# Altium footprint library Capacitor_THT.PcbLib: 378 footprints (part 8 of 24)
Each footprint in its own frame and in the unit in brackets; x right, y up, seen from the top. Pads: shape width x height; smd on the part's side, far side on the other; paste and mask are expansions set on the pad; w line width, h text height; cw(c..) or ccw(c..) is an arc to the next point about the centre after c.
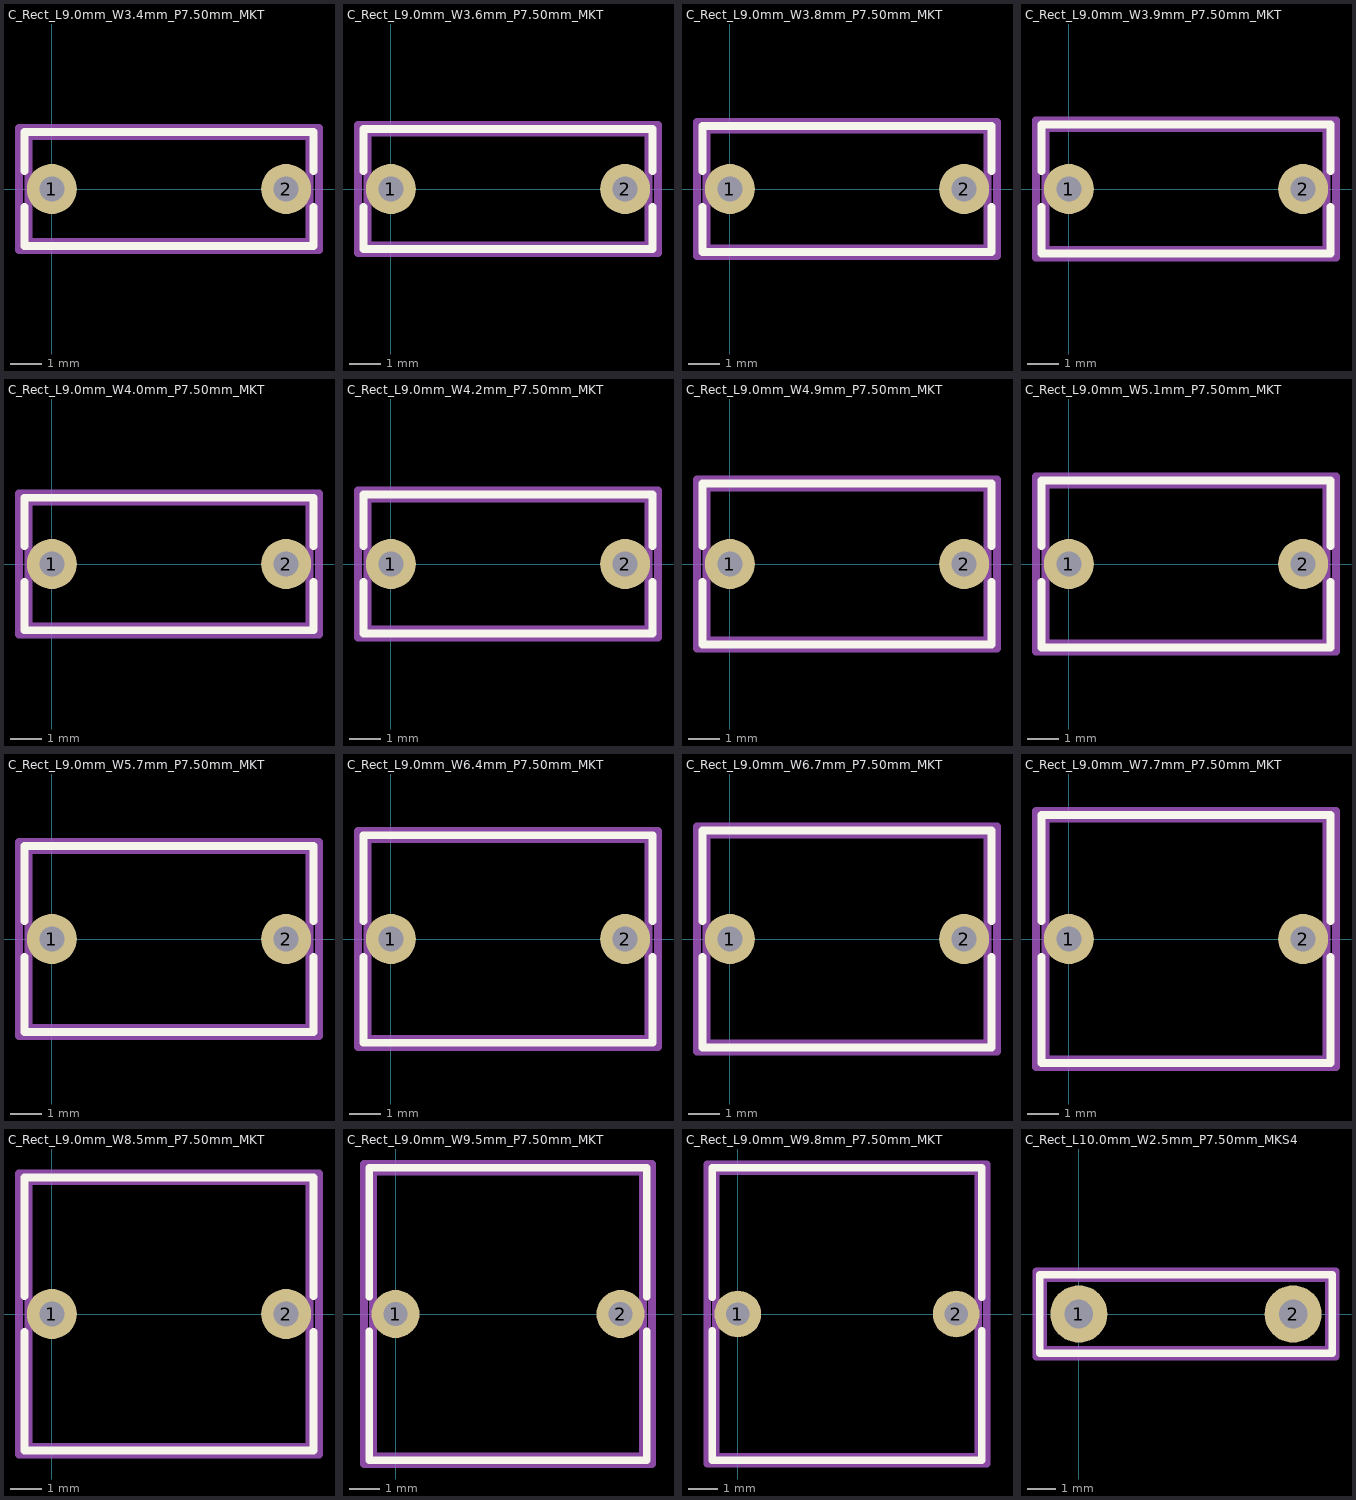
[diagram p7: the footprints below, top view; thin cyan lines are the x and y axes]

## C_Rect_L9.0mm_W3.4mm_P7.50mm_MKT [mm] "C_Rect_L9.0mm_W3.4mm_P7.50mm_MKT"
pads (2):
  round 1.6 hole 0.8: 1(0,0) 2(7.5,0)
F.SilkS:
  lines w0.254: -0.87,-0.57 -0.87,-1.82 8.37,-1.82 8.37,-0.57 ; -0.87,0.57 -0.87,1.82 8.37,1.82 8.37,0.57
Top Component Center:
  lines w0.127: -0.127,0 0.127,0 ; 0,-0.127 0,0.127
Top Assembly:
  lines w0.254: -0.75,-1.7 8.25,-1.7 8.25,1.7 -0.75,1.7 -0.75,-1.7
Top Courtyard:
  lines w0.254: -1.05,-1.95 8.55,-1.95 8.55,1.95 -1.05,1.95 -1.05,-1.95
Top Designator:
  text ".Designator" at 0.376,-0.472 h1.52
3D body "C_Rect_L9.0mm_W3.4mm_P7.50mm_MKT.step": height 8, standoff -1.9, extent -0.25,-1.7 7.75,1.7

## C_Rect_L9.0mm_W3.6mm_P7.50mm_MKT [mm] "C_Rect_L9.0mm_W3.6mm_P7.50mm_MKT"
pads (2):
  round 1.6 hole 0.8: 1(0,0) 2(7.5,0)
F.SilkS:
  lines w0.254: -0.87,-0.57 -0.87,-1.92 8.37,-1.92 8.37,-0.57 ; -0.87,0.57 -0.87,1.92 8.37,1.92 8.37,0.57
Top Component Center:
  lines w0.127: -0.127,0 0.127,0 ; 0,-0.127 0,0.127
Top Assembly:
  lines w0.254: -0.75,-1.8 -0.75,1.8 8.25,1.8 8.25,-1.8 -0.75,-1.8
Top Courtyard:
  lines w0.254: -1.05,-2.05 8.55,-2.05 8.55,2.05 -1.05,2.05 -1.05,-2.05
Top Designator:
  text ".Designator" at 0.376,-0.472 h1.52
3D body "C_Rect_L9.0mm_W3.6mm_P7.50mm_MKT.step": height 8, standoff -1.9, extent -0.25,-1.8 7.75,1.8

## C_Rect_L9.0mm_W3.8mm_P7.50mm_MKT [mm] "C_Rect_L9.0mm_W3.8mm_P7.50mm_MKT"
pads (2):
  round 1.6 hole 0.8: 1(0,0) 2(7.5,0)
F.SilkS:
  lines w0.254: -0.87,-0.57 -0.87,-2.02 8.37,-2.02 8.37,-0.57 ; -0.87,0.57 -0.87,2.02 8.37,2.02 8.37,0.57
Top Component Center:
  lines w0.127: -0.127,0 0.127,0 ; 0,-0.127 0,0.127
Top Assembly:
  lines w0.254: -0.75,-1.9 8.25,-1.9 8.25,1.9 -0.75,1.9 -0.75,-1.9
Top Courtyard:
  lines w0.254: -1.05,-2.15 8.55,-2.15 8.55,2.15 -1.05,2.15 -1.05,-2.15
Top Designator:
  text ".Designator" at 0.376,-0.472 h1.52
3D body "C_Rect_L9.0mm_W3.8mm_P7.50mm_MKT.step": height 8, standoff -1.9, extent -0.25,-1.9 7.75,1.9

## C_Rect_L9.0mm_W3.9mm_P7.50mm_MKT [mm] "C_Rect_L9.0mm_W3.9mm_P7.50mm_MKT"
pads (2):
  round 1.6 hole 0.8: 1(0,0) 2(7.5,0)
F.SilkS:
  lines w0.254: -0.87,-0.57 -0.87,-2.07 8.37,-2.07 8.37,-0.57 ; -0.87,0.57 -0.87,2.07 8.37,2.07 8.37,0.57
Top Component Center:
  lines w0.127: -0.127,0 0.127,0 ; 0,-0.127 0,0.127
Top Assembly:
  lines w0.254: -0.75,-1.95 8.25,-1.95 8.25,1.95 -0.75,1.95 -0.75,-1.95
Top Courtyard:
  lines w0.254: -1.05,-2.2 8.55,-2.2 8.55,2.2 -1.05,2.2 -1.05,-2.2
Top Designator:
  text ".Designator" at 0.376,-0.472 h1.52
3D body "C_Rect_L9.0mm_W3.9mm_P7.50mm_MKT.step": height 8, standoff -1.9, extent -0.25,-1.95 7.75,1.95

## C_Rect_L9.0mm_W4.0mm_P7.50mm_MKT [mm] "C_Rect_L9.0mm_W4.0mm_P7.50mm_MKT"
pads (2):
  round 1.6 hole 0.8: 1(0,0) 2(7.5,0)
F.SilkS:
  lines w0.254: -0.87,-0.57 -0.87,-2.12 8.37,-2.12 8.37,-0.57 ; -0.87,0.57 -0.87,2.12 8.37,2.12 8.37,0.57
Top Component Center:
  lines w0.127: -0.127,0 0.127,0 ; 0,-0.127 0,0.127
Top Assembly:
  lines w0.254: -0.75,-2 8.25,-2 8.25,2 -0.75,2 -0.75,-2
Top Courtyard:
  lines w0.254: -1.05,-2.25 8.55,-2.25 8.55,2.25 -1.05,2.25 -1.05,-2.25
Top Designator:
  text ".Designator" at 0.376,-0.472 h1.52
3D body "C_Rect_L9.0mm_W4.0mm_P7.50mm_MKT.step": height 8, standoff -1.9, extent -0.25,-2 7.75,2

## C_Rect_L9.0mm_W4.2mm_P7.50mm_MKT [mm] "C_Rect_L9.0mm_W4.2mm_P7.50mm_MKT"
pads (2):
  round 1.6 hole 0.8: 1(0,0) 2(7.5,0)
F.SilkS:
  lines w0.254: -0.87,-0.57 -0.87,-2.22 8.37,-2.22 8.37,-0.57 ; -0.87,0.57 -0.87,2.22 8.37,2.22 8.37,0.57
Top Component Center:
  lines w0.127: -0.127,0 0.127,0 ; 0,-0.127 0,0.127
Top Assembly:
  lines w0.254: -0.75,-2.1 8.25,-2.1 8.25,2.1 -0.75,2.1 -0.75,-2.1
Top Courtyard:
  lines w0.254: -1.05,-2.35 8.55,-2.35 8.55,2.35 -1.05,2.35 -1.05,-2.35
Top Designator:
  text ".Designator" at 0.376,-0.472 h1.52
3D body "C_Rect_L9.0mm_W4.2mm_P7.50mm_MKT.step": height 8, standoff -1.9, extent -0.25,-2.1 7.75,2.1

## C_Rect_L9.0mm_W4.9mm_P7.50mm_MKT [mm] "C_Rect_L9.0mm_W4.9mm_P7.50mm_MKT"
pads (2):
  round 1.6 hole 0.8: 1(0,0) 2(7.5,0)
F.SilkS:
  lines w0.254: -0.87,-0.57 -0.87,-2.57 8.37,-2.57 8.37,-0.57 ; -0.87,0.57 -0.87,2.57 8.37,2.57 8.37,0.57
Top Component Center:
  lines w0.127: -0.127,0 0.127,0 ; 0,-0.127 0,0.127
Top Assembly:
  lines w0.254: -0.75,-2.45 8.25,-2.45 8.25,2.45 -0.75,2.45 -0.75,-2.45
Top Courtyard:
  lines w0.254: -1.05,-2.7 8.55,-2.7 8.55,2.7 -1.05,2.7 -1.05,-2.7
Top Designator:
  text ".Designator" at 0.376,-0.472 h1.52
3D body "C_Rect_L9.0mm_W4.9mm_P7.50mm_MKT.step": height 8, standoff -1.9, extent -0.25,-2.45 7.75,2.45

## C_Rect_L9.0mm_W5.1mm_P7.50mm_MKT [mm] "C_Rect_L9.0mm_W5.1mm_P7.50mm_MKT"
pads (2):
  round 1.6 hole 0.8: 1(0,0) 2(7.5,0)
F.SilkS:
  lines w0.254: -0.87,-0.57 -0.87,-2.67 8.37,-2.67 8.37,-0.57 ; -0.87,0.57 -0.87,2.67 8.37,2.67 8.37,0.57
Top Component Center:
  lines w0.127: -0.127,0 0.127,0 ; 0,-0.127 0,0.127
Top Assembly:
  lines w0.254: -0.75,-2.55 8.25,-2.55 8.25,2.55 -0.75,2.55 -0.75,-2.55
Top Courtyard:
  lines w0.254: -1.05,-2.8 8.55,-2.8 8.55,2.8 -1.05,2.8 -1.05,-2.8
Top Designator:
  text ".Designator" at 0.376,-0.472 h1.52
3D body "C_Rect_L9.0mm_W5.1mm_P7.50mm_MKT.step": height 8, standoff -1.9, extent -0.25,-2.55 7.75,2.55

## C_Rect_L9.0mm_W5.7mm_P7.50mm_MKT [mm] "C_Rect_L9.0mm_W5.7mm_P7.50mm_MKT"
pads (2):
  round 1.6 hole 0.8: 1(0,0) 2(7.5,0)
F.SilkS:
  lines w0.254: -0.87,-0.57 -0.87,-2.97 8.37,-2.97 8.37,-0.57 ; -0.87,0.57 -0.87,2.97 8.37,2.97 8.37,0.57
Top Component Center:
  lines w0.127: -0.127,0 0.127,0 ; 0,-0.127 0,0.127
Top Assembly:
  lines w0.254: -0.75,-2.85 8.25,-2.85 8.25,2.85 -0.75,2.85 -0.75,-2.85
Top Courtyard:
  lines w0.254: -1.05,-3.1 8.55,-3.1 8.55,3.1 -1.05,3.1 -1.05,-3.1
Top Designator:
  text ".Designator" at 0.376,-0.472 h1.52
3D body "C_Rect_L9.0mm_W5.7mm_P7.50mm_MKT.step": height 8, standoff -1.9, extent -0.25,-2.85 7.75,2.85

## C_Rect_L9.0mm_W6.4mm_P7.50mm_MKT [mm] "C_Rect_L9.0mm_W6.4mm_P7.50mm_MKT"
pads (2):
  round 1.6 hole 0.8: 1(0,0) 2(7.5,0)
F.SilkS:
  lines w0.254: -0.87,-0.57 -0.87,-3.32 8.37,-3.32 8.37,-0.57 ; -0.87,0.57 -0.87,3.32 8.37,3.32 8.37,0.57
Top Component Center:
  lines w0.127: -0.127,0 0.127,0 ; 0,-0.127 0,0.127
Top Assembly:
  lines w0.254: -0.75,-3.2 -0.75,3.2 8.25,3.2 8.25,-3.2 -0.75,-3.2
Top Courtyard:
  lines w0.254: -1.05,-3.45 -1.05,3.45 8.55,3.45 8.55,-3.45 -1.05,-3.45
Top Designator:
  text ".Designator" at 0.316,-0.345 h1.52
3D body "C_Rect_L9.0mm_W6.4mm_P7.50mm_MKT.step": height 8, standoff -1.9, extent -0.25,-3.2 7.75,3.2

## C_Rect_L9.0mm_W6.7mm_P7.50mm_MKT [mm] "C_Rect_L9.0mm_W6.7mm_P7.50mm_MKT"
pads (2):
  round 1.6 hole 0.8: 1(0,0) 2(7.5,0)
F.SilkS:
  lines w0.254: -0.87,-0.57 -0.87,-3.47 8.37,-3.47 8.37,-0.57 ; -0.87,0.57 -0.87,3.47 8.37,3.47 8.37,0.57
Top Component Center:
  lines w0.127: -0.127,0 0.127,0 ; 0,-0.127 0,0.127
Top Assembly:
  lines w0.254: -0.75,-3.35 8.25,-3.35 8.25,3.35 -0.75,3.35 -0.75,-3.35
Top Courtyard:
  lines w0.254: -1.05,-3.6 8.55,-3.6 8.55,3.6 -1.05,3.6 -1.05,-3.6
Top Designator:
  text ".Designator" at 0.316,-0.345 h1.52
3D body "C_Rect_L9.0mm_W6.7mm_P7.50mm_MKT.step": height 8, standoff -1.9, extent -0.25,-3.35 7.75,3.35

## C_Rect_L9.0mm_W7.7mm_P7.50mm_MKT [mm] "C_Rect_L9.0mm_W7.7mm_P7.50mm_MKT"
pads (2):
  round 1.6 hole 0.8: 1(0,0) 2(7.5,0)
F.SilkS:
  lines w0.254: -0.87,-0.57 -0.87,-3.97 8.37,-3.97 8.37,-0.57 ; -0.87,0.57 -0.87,3.97 8.37,3.97 8.37,0.57
Top Component Center:
  lines w0.127: -0.127,0 0.127,0 ; 0,-0.127 0,0.127
Top Assembly:
  lines w0.254: -0.75,-3.85 -0.75,3.85 8.25,3.85 8.25,-3.85 -0.75,-3.85
Top Courtyard:
  lines w0.254: -1.05,-4.1 -1.05,4.1 8.55,4.1 8.55,-4.1 -1.05,-4.1
Top Designator:
  text ".Designator" at 0.316,-0.345 h1.52
3D body "C_Rect_L9.0mm_W7.7mm_P7.50mm_MKT.step": height 8, standoff -1.9, extent -0.25,-3.85 7.75,3.85

## C_Rect_L9.0mm_W8.5mm_P7.50mm_MKT [mm] "C_Rect_L9.0mm_W8.5mm_P7.50mm_MKT"
pads (2):
  round 1.6 hole 0.8: 1(0,0) 2(7.5,0)
F.SilkS:
  lines w0.254: -0.87,-0.57 -0.87,-4.37 8.37,-4.37 8.37,-0.57 ; -0.87,0.57 -0.87,4.37 8.37,4.37 8.37,0.57
Top Component Center:
  lines w0.127: -0.127,0 0.127,0 ; 0,-0.127 0,0.127
Top Assembly:
  lines w0.254: -0.75,-4.25 8.25,-4.25 8.25,4.25 -0.75,4.25 -0.75,-4.25
Top Courtyard:
  lines w0.254: -1.05,-4.5 8.55,-4.5 8.55,4.5 -1.05,4.5 -1.05,-4.5
Top Designator:
  text ".Designator" at 0.316,-0.345 h1.52
3D body "C_Rect_L9.0mm_W8.5mm_P7.50mm_MKT.step": height 8, standoff -1.9, extent -0.25,-4.25 7.75,4.25

## C_Rect_L9.0mm_W9.5mm_P7.50mm_MKT [mm] "C_Rect_L9.0mm_W9.5mm_P7.50mm_MKT"
pads (2):
  round 1.6 hole 0.8: 1(0,0) 2(7.5,0)
F.SilkS:
  lines w0.254: -0.87,-0.57 -0.87,-4.87 8.37,-4.87 8.37,-0.57 ; -0.87,0.57 -0.87,4.87 8.37,4.87 8.37,0.57
Top Component Center:
  lines w0.127: -0.127,0 0.127,0 ; 0,-0.127 0,0.127
Top Assembly:
  lines w0.254: -0.75,-4.75 8.25,-4.75 8.25,4.75 -0.75,4.75 -0.75,-4.75
Top Courtyard:
  lines w0.254: -1.05,-5 8.55,-5 8.55,5 -1.05,5 -1.05,-5
Top Designator:
  text ".Designator" at 0.316,-0.345 h1.52
3D body "C_Rect_L9.0mm_W9.5mm_P7.50mm_MKT.step": height 8, standoff -1.9, extent -0.25,-4.75 7.75,4.75

## C_Rect_L9.0mm_W9.8mm_P7.50mm_MKT [mm] "C_Rect_L9.0mm_W9.8mm_P7.50mm_MKT"
pads (2):
  round 1.6 hole 0.8: 1(0,0) 2(7.5,0)
F.SilkS:
  lines w0.254: -0.87,-0.57 -0.87,-5.02 8.37,-5.02 8.37,-0.57 ; -0.87,0.57 -0.87,5.02 8.37,5.02 8.37,0.57
Top Component Center:
  lines w0.127: -0.127,0 0.127,0 ; 0,-0.127 0,0.127
Top Assembly:
  lines w0.254: -0.75,-4.9 8.25,-4.9 8.25,4.9 -0.75,4.9 -0.75,-4.9
Top Courtyard:
  lines w0.254: -1.05,-5.15 8.55,-5.15 8.55,5.15 -1.05,5.15 -1.05,-5.15
Top Designator:
  text ".Designator" at 0.316,-0.345 h1.52
3D body "C_Rect_L9.0mm_W9.8mm_P7.50mm_MKT.step": height 8, standoff -1.9, extent -0.25,-4.9 7.75,4.9

## C_Rect_L10.0mm_W2.5mm_P7.50mm_MKS4 [mm] "C_Rect_L10.0mm_W2.5mm_P7.50mm_MKS4"
pads (2):
  round 2 hole 1: 1(0,0) 2(7.5,0)
F.SilkS:
  lines w0.254: -1.37,-1.37 8.87,-1.37 8.87,1.37 -1.37,1.37 -1.37,-1.37
Top Component Center:
  lines w0.127: -0.127,0 0.127,0 ; 0,-0.127 0,0.127
Top Assembly:
  lines w0.254: -1.25,-1.25 8.75,-1.25 8.75,1.25 -1.25,1.25 -1.25,-1.25
Top Courtyard:
  lines w0.254: -1.5,-1.5 9,-1.5 9,1.5 -1.5,1.5 -1.5,-1.5
Top Designator:
  text ".Designator" at 0.316,-0.345 h1.52
3D body "C_Rect_L10.0mm_W2.5mm_P7.50mm_MKS4.step": height 9, standoff -1.9, extent -1.25,-1.25 8.75,1.25